# Altium integrated library Passive.IntLib: 1327 symbols (part 10 of 10)
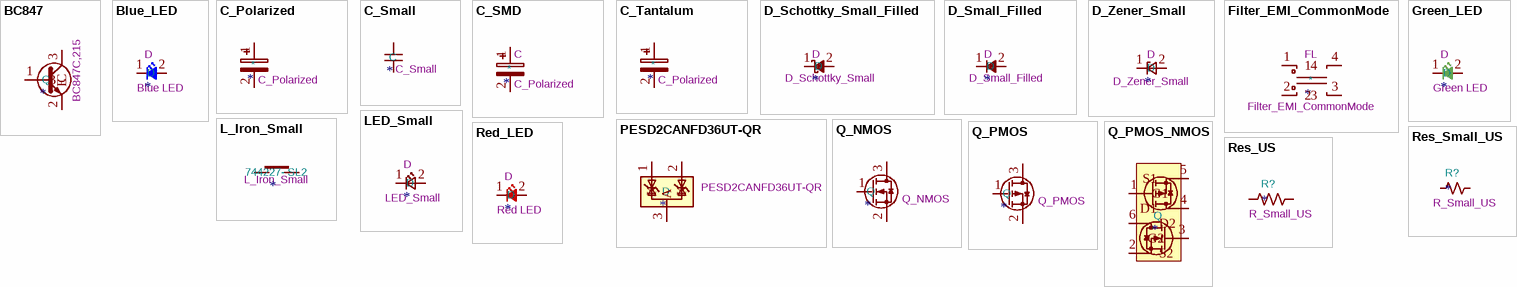
[diagram p50: symbols BC847 to Res_US]

## C_Tantalum
designator *  value C_Polarized
Tantalum capacitor; Datasheet: ~
footprint CP_EIA-1608-08_AVX-J
footprint CP_EIA-1608-10_AVX-L
footprint CP_EIA-2012-12_Kemet-R
footprint CP_EIA-2012-15_AVX-P
footprint CP_EIA-3216-10_Kemet-I
footprint CP_EIA-3216-12_Kemet-S
footprint CP_EIA-3216-18_Kemet-A
footprint CP_EIA-3528-12_Kemet-T
footprint CP_EIA-3528-15_AVX-H
footprint CP_EIA-3528-21_Kemet-B
footprint CP_EIA-6032-15_Kemet-U
footprint CP_EIA-6032-20_AVX-F
footprint CP_EIA-6032-28_Kemet-C
footprint CP_EIA-7132-20_AVX-U
footprint CP_EIA-7132-28_AVX-C
footprint CP_EIA-7260-15_AVX-R
footprint CP_EIA-7260-20_AVX-M
footprint CP_EIA-7260-28_AVX-M
footprint CP_EIA-7260-38_AVX-R
footprint CP_EIA-7343-15_Kemet-W
footprint CP_EIA-7343-20_Kemet-V
footprint CP_EIA-7343-30_AVX-N
footprint CP_EIA-7343-43_Kemet-X
footprint CP_EIA-7343-31_Kemet-D
footprint CP_EIA-7360-38_Kemet-E
footprint CP_EIA-7343-40_Kemet-Y
footprint CP_EIA-7361-38_AVX-V
footprint CP_EIA-7361-438_AVX-U
pins: 1, 2

## D_Schottky_Small_Filled
designator D  value D_Schottky_Small  Reference: D
Schottky diode, small symbol; Description_: Schottky diode, small symbol, filled shape; ki_keywords: diode Schottky; ki_fp_filters: TO-???* *_Diode_* *SingleDiode* D_*; Datasheet: ~
footprint D_SMA
pins: 1 K, 2 A

## D_Small_Filled
designator D  value D_Small_Filled  Reference: D
Diode, small symbol, filled shape; Sim.Pins: 1=K 2=A; ki_fp_filters: TO-???* *_Diode_* *SingleDiode* D_*; Datasheet: ~; Description_: Diode, small symbol, filled shape; Sim.Device: D; ki_keywords: diode
footprint D_SMA
pins: 1 K, 2 A

## D_Zener_Small
designator D  value D_Zener_Small  Reference: D
Zener diode, small symbol; ki_fp_filters: TO-???* *_Diode_* *SingleDiode* D_*; Datasheet: ~; Description_: Zener diode, small symbol; ki_keywords: diode
footprint D_SMA
pins: 1 K, 2 A

## Filter_EMI_CommonMode
designator *  value Filter_EMI_CommonMode  Reference: FL
EMI 2-inductor common mode filter; ki_keywords: EMI common mode filter; ki_fp_filters: L_* L_CommonMode*; Datasheet: ~; Description_: EMI 2-inductor common mode filter
footprint L_CommonMode_Wuerth_WE-SL2
footprint L_CommonModeChoke_Wuerth_WE-SL2 (WE-SL2_L9.2W6H5 SMD Inductor, 4-Leads, Body 9.2x6mm)
pins: 1, 2, 3, 4

## Green_LED
designator D  value Green LED  Reference: D
Light emitting diode, small symbol, filled shape; Sim.Pins: 1=K 2=A; ki_keywords: LED diode light-emitting-diode; ki_fp_filters: LED* LED_SMD:* LED_THT:*; Datasheet: ~; Description_: Light emitting diode, small symbol, filled shape
footprint LED_0201_0603Metric
footprint LED_0402_1005Metric
footprint LED_0603_1608Metric
footprint LED_0805_2012Metric
footprint LED_01005_0402Metric
footprint LED_1206_3216Metric
footprint LED_1206_3216Metric_ReverseMount_Hole1.8x2.4mm
footprint LED_1210_3225Metric
footprint LED_1812_4532Metric
footprint LED_2010_5025Metric
footprint LED_2512_6332Metric
pins: 1 K, 2 A

## L_Iron_Small
designator 744227- SL2  value L_Iron_Small
Inductor with iron core, small symbol; Datasheet: ~; Description_: Inductor with iron core, small symbol
footprint L_0201_0603Metric
footprint L_0402_1005Metric
footprint L_0603_1608Metric
footprint L_0805_2012Metric
footprint L_1008_2520Metric
footprint L_1206_3216Metric
footprint L_1210_3225Metric
footprint R_1218_3246Metric
footprint L_1806_4516Metric
footprint L_APV_APH0650_6045
pins: 1, 2

## LED_Small
designator D  value LED_Small  Reference: D
Light emitting diode, small symbol; Sim.Pin: 1=K 2=A; ki_keywords: LED diode light-emitting-diode; ki_fp_filters: LED* LED_SMD:* LED_THT:*; Datasheet: ~; Description_: Light emitting diode, small symbol
pins: 1 K, 2 A

## PESD2CANFD36UT-QR
designator D  value PESD2CANFD36UT-QR
ESD protection for in-vehicle networks; ki_keywords: can esd protection suppression transient; ki_fp_filters: SOT?23*; Reference: D; Footprint: Package_TO_SOT_SMD:SOT-23; Datasheet: https://www.onsemi.com/pub_link/Collateral/NUP2105L-D.PDF; Description_: ESD protection for in-vehicle networks
footprint SOT-23-3
pins: 1 K, 2 K, 3 A

## Q_NMOS
designator Q  value Q_NMOS
N-MOSFET transistor; ki_keywords: NMOS N-MOS; Reference: Q; Datasheet: ~; Description_: N-MOSFET transistor
footprint SOT-23-3
pins: 1 G, 2 S, 3 D

## Q_PMOS
designator Q  value Q_PMOS
P-MOSFET transistor; ki_keywords: PMOS P-MOS; Reference: Q; Datasheet: ~; Description_: P-MOSFET transistor
footprint SOT-23-3
pins: 1 G, 2 S, 3 D

## Q_PMOS_NMOS
designator Q
P-MOSFET transistor; Manufacturer: GoFord; Manufacturer Lifecycle Status: ACTIVE; Manufacturer Part Number: G300C03L6; ki_keywords: PMOS P-MOS; Reference: Q; Value: Q_PMOS; Datasheet: ~; Description_: P-MOSFET transistor; Case/Package: SOT-23-6; Category: MOSFETs; Country of Origin: China; Harmonized Tariff Schedule (HTS) Code: 8541290000; Lifecycle Status: Production; Supplier 1: DigiKey; Supplier Part Number 1: 3141-G300C03L6CT-ND; Supplier Packaging 1: Cut Tape; Supplier Unit Price 1: $0.50; Supplier Location 1: US
footprint SOT-23-6
pins: 1 G1, 2 S2, 3 G2, 4 D1, 5 S1, 6 D2

## Red_LED
designator D  value Red LED  Reference: D
Light emitting diode, small symbol, filled shape; Sim.Pins: 1=K 2=A; ki_keywords: LED diode light-emitting-diode; ki_fp_filters: LED* LED_SMD:* LED_THT:*; Datasheet: ~; Description_: Light emitting diode, small symbol, filled shape
footprint LED_0201_0603Metric
footprint LED_0402_1005Metric
footprint LED_0603_1608Metric
footprint LED_0805_2012Metric
footprint LED_01005_0402Metric
footprint LED_1206_3216Metric
footprint LED_1206_3216Metric_ReverseMount_Hole1.8x2.4mm
footprint LED_1210_3225Metric
footprint LED_1812_4532Metric
footprint LED_2010_5025Metric
footprint LED_2512_6332Metric
pins: 1 K, 2 A

## Res_Small_US
designator R?  value R_Small_US
Resistor, small US symbol; Datasheet: ~; Description_: Resistor, small US symbol
footprint R_0603_1608Metric
footprint R_0201_0603Metric
footprint R_0402_1005Metric
footprint R_0508_1220Metric
footprint R_0612_1632Metric
footprint R_0805_2012Metric
footprint R_0815_2038Metric
footprint R_01005_0402Metric
footprint R_1020_2550Metric
footprint R_1206_3216Metric
footprint R_1210_3225Metric
footprint R_1218_3246Metric
footprint R_1225_3264Metric
footprint R_1812_4532Metric
footprint R_2010_5025Metric
footprint R_2512_6332Metric
footprint R_2816_7142Metric
footprint R_4020_10251Metric
footprint R_MELF_MMB-0207
footprint R_MicroMELF_MMU-0102
footprint R_MiniMELF_MMA-0204
pins: 1, 2

## Res_US
designator R?  value R_Small_US
Resistor, small US symbol; Datasheet: ~; Description_: Resistor, small US symbol
footprint R_0603_1608Metric
footprint R_0201_0603Metric
footprint R_0402_1005Metric
footprint R_0508_1220Metric
footprint R_0612_1632Metric
footprint R_0805_2012Metric
footprint R_0815_2038Metric
footprint R_01005_0402Metric
footprint R_1020_2550Metric
footprint R_1206_3216Metric
footprint R_1210_3225Metric
footprint R_1218_3246Metric
footprint R_1225_3264Metric
footprint R_1812_4532Metric
footprint R_2010_5025Metric
footprint R_2512_6332Metric
footprint R_2816_7142Metric
footprint R_4020_10251Metric
footprint R_MELF_MMB-0207
footprint R_MicroMELF_MMU-0102
footprint R_MiniMELF_MMA-0204
pins: 1, 2


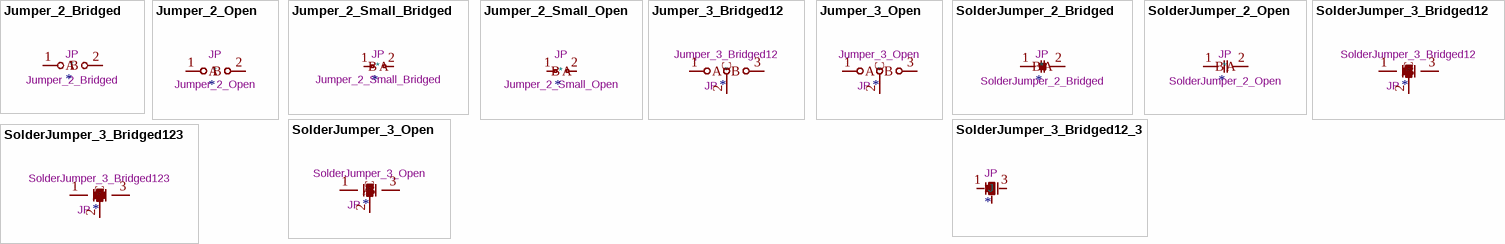
[diagram p41: symbols Jumper_2_Bridged to SolderJumper_3_Open]

## Jumper_2_Bridged
designator *  value Jumper_2_Bridged  Reference: JP
Jumper, 2-pole, closed/bridged; ki_keywords: Jumper SPST; ki_fp_filters: Jumper* TestPoint*2Pads* TestPoint*Bridge*; Datasheet: ~; Description_: Jumper, 2-pole, closed/bridged
pins: 1 A, 2 B

## Jumper_2_Open
designator *  value Jumper_2_Open  Reference: JP
Jumper, 2-pole, open; ki_keywords: Jumper SPST; ki_fp_filters: Jumper* TestPoint*2Pads* TestPoint*Bridge*; Datasheet: ~; Description_: Jumper, 2-pole, open
pins: 1 A, 2 B

## Jumper_2_Small_Bridged
designator *  value Jumper_2_Small_Bridged  Reference: JP
Jumper, 2-pole, small symbol, bridged; ki_keywords: Jumper SPST; ki_fp_filters: Jumper* TestPoint*2Pads* TestPoint*Bridge*; Datasheet: ~; Description_: Jumper, 2-pole, small symbol, bridged
pins: 1 A, 2 B

## Jumper_2_Small_Open
designator *  value Jumper_2_Small_Open  Reference: JP
Jumper, 2-pole, small symbol, open; ki_keywords: Jumper SPST; ki_fp_filters: Jumper* TestPoint*2Pads* TestPoint*Bridge*; Datasheet: ~; Description_: Jumper, 2-pole, small symbol, open
pins: 1 A, 2 B

## Jumper_3_Bridged12
designator *  value Jumper_3_Bridged12  Reference: JP
Jumper, 3-pole, pins 1+2 closed/bridged; ki_keywords: Jumper SPDT; ki_fp_filters: Jumper* TestPoint*3Pads* TestPoint*Bridge*; Datasheet: ~; Description_: Jumper, 3-pole, pins 1+2 closed/bridged
pins: 1 A, 2 C, 3 B

## Jumper_3_Open
designator *  value Jumper_3_Open  Reference: JP
Jumper, 3-pole, both open; ki_keywords: Jumper SPDT; ki_fp_filters: Jumper* TestPoint*3Pads* TestPoint*Bridge*; Datasheet: ~; Description_: Jumper, 3-pole, both open
pins: 1 A, 2 C, 3 B

## SolderJumper_2_Bridged
designator *  value SolderJumper_2_Bridged  Reference: JP
Solder Jumper, 2-pole, closed/bridged; ki_keywords: solder jumper SPST; ki_fp_filters: SolderJumper*Bridged*; Datasheet: ~; Description_: Solder Jumper, 2-pole, closed/bridged
pins: 1 A, 2 B

## SolderJumper_2_Open
designator *  value SolderJumper_2_Open  Reference: JP
Solder Jumper, 2-pole, open; ki_keywords: solder jumper SPST; ki_fp_filters: SolderJumper*Open*; Datasheet: ~; Description_: Solder Jumper, 2-pole, open
pins: 1 A, 2 B

## SolderJumper_3_Bridged12
designator *  value SolderJumper_3_Bridged12  Reference: JP
3-pole Solder Jumper, pins 1+2 closed/bridged; ki_keywords: Solder Jumper SPDT; ki_fp_filters: SolderJumper*Bridged12*; Datasheet: ~; Description_: 3-pole Solder Jumper, pins 1+2 closed/bridged
pins: 1 A, 2 C, 3 B

## SolderJumper_3_Bridged12_3
designator J  Reference: JP
3-pole Solder Jumper, pins 1+2 closed/bridged; ki_keywords: Solder Jumper SPDT; ki_fp_filters: SolderJumper*Bridged12*; Value: SolderJumper_3_Bridged12; Datasheet: ~; Description_: 3-pole Solder Jumper, pins 1+2 closed/bridged
footprint J_0402_1005Metric (R_0402_1005Metric)
footprint J_0603_1608Metric (R_0603_1608Metric)
footprint J_0202 (R_0402_1005Metric)
pins: 1 A, 2 C, 3 B

## SolderJumper_3_Bridged123
designator *  value SolderJumper_3_Bridged123  Reference: JP
Solder Jumper, 3-pole, pins 1+2+3 closed/bridged; ki_keywords: Solder Jumper SPDT; ki_fp_filters: SolderJumper*Bridged123*; Datasheet: ~; Description_: Solder Jumper, 3-pole, pins 1+2+3 closed/bridged
pins: 1 A, 2 C, 3 B

## SolderJumper_3_Open
designator *  value SolderJumper_3_Open  Reference: JP
Solder Jumper, 3-pole, open; ki_keywords: Solder Jumper SPDT; ki_fp_filters: SolderJumper*Open*; Datasheet: ~; Description_: Solder Jumper, 3-pole, open
pins: 1 A, 2 C, 3 B